# Altium footprint library PcbLib1.PcbLib: 1 footprints
Each footprint in its own frame and in the unit in brackets; x right, y up, seen from the top. Pads: shape width x height; smd on the part's side, far side on the other; paste and mask are expansions set on the pad; w line width, h text height; cw(c..) or ccw(c..) is an arc to the next point about the centre after c.

## IDC Male Header 2x5 1.27mm [mm] "IDC Male Header 2x5 1.27mm"
3D body "CONB127P-2R-10W_TH.STEP": height 5.4, standoff -2.1, extent -6.325,-2.65 6.325,2.55